# Altium footprint library respotBourns.PcbLib: 1 footprints
Each footprint in its own frame and in the unit in brackets; x right, y up, seen from the top. Pads: shape width x height; smd on the part's side, far side on the other; paste and mask are expansions set on the pad; w line width, h text height; cw(c..) or ccw(c..) is an arc to the next point about the centre after c.
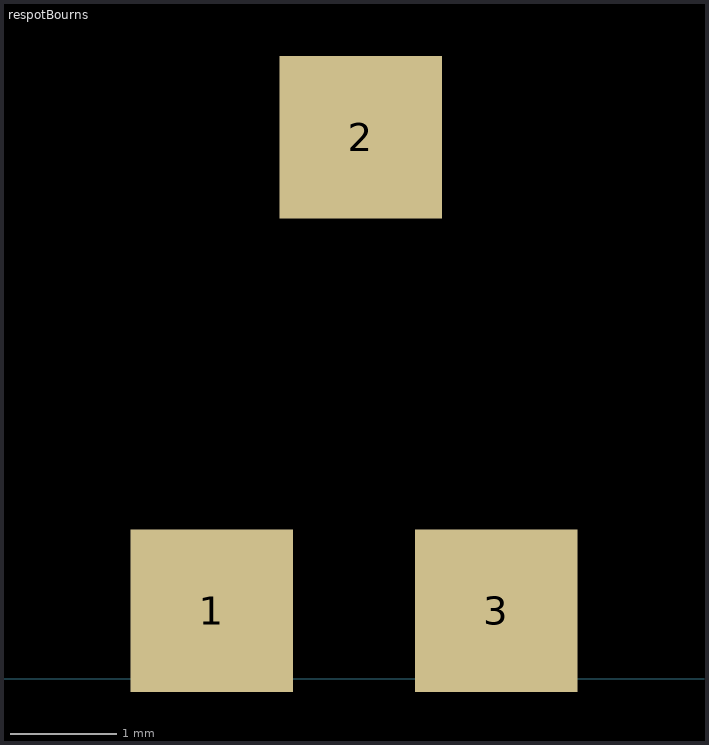
[diagram p0: the footprint, top view; thin cyan lines are the x and y axes]

## respotBourns [mil]
pads (3):
  rect 60x60 smd: 1(80,25) 2(135,200) 3(185,25)
3D body "3224J-1.stp": height 146.87, standoff 0.87, extent 38.01,17.51 228,212.51